# Altium schematic symbol library PWR_LED.SchLib: 1 symbol
Pins are listed as number, name and electrical type; pins without a type are passive.

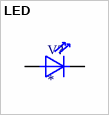
[diagram p0: symbol LED]

## LED
designator V?
Power LED 20 - 100W (40x42mm))
footprint PWR_LED
pins: 1 +, 2 -